# Altium schematic symbol library RFSA2013.Schlib: 1 symbol
Pins are listed as number, name and electrical type; pins without a type are passive.

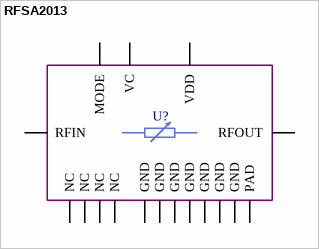
[diagram p0: symbol RFSA2013]

## RFSA2013
designator U?  (value not drawn)
pins: 1 GND, 2 NC, 3 RFIN, 4 NC, 5 GND, 6 GND, 7 GND, 8 GND, 9 NC, 10 RFOUT, 11 NC, 12 GND, 13 GND, 14 VC, 15 VDD, 16 MODE, EP1 PAD